# EAGLE library part F1X6 (library J-HDR2.54mm)
FEMALE HEADER 6POS
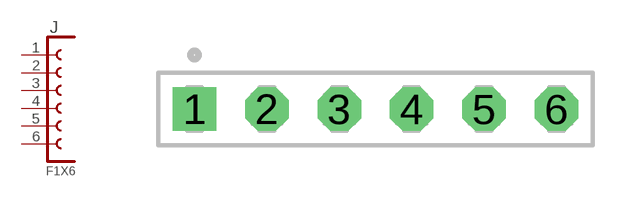
[diagram p9: symbol with the pads of F1X6; footprint F1X6]

Designator prefix J

## F1X6  [F1X6]
1  1  pas
2  2  pas
3  3  pas
4  4  pas
5  5  pas
6  6  pas

## Footprint F1X6 (pad centres in mm)
FEMALE HEADER 6POS
drill 1.016 square: 1 0,0
drill 1.016 octagon: 2 2.54,0; 3 5.08,0; 4 7.62,0; 5 10.16,0; 6 12.7,0